# Altium integrated library micro-hitachi.IntLib: 4 symbols
Pins are listed as number, name and electrical type; pins without a type are passive.

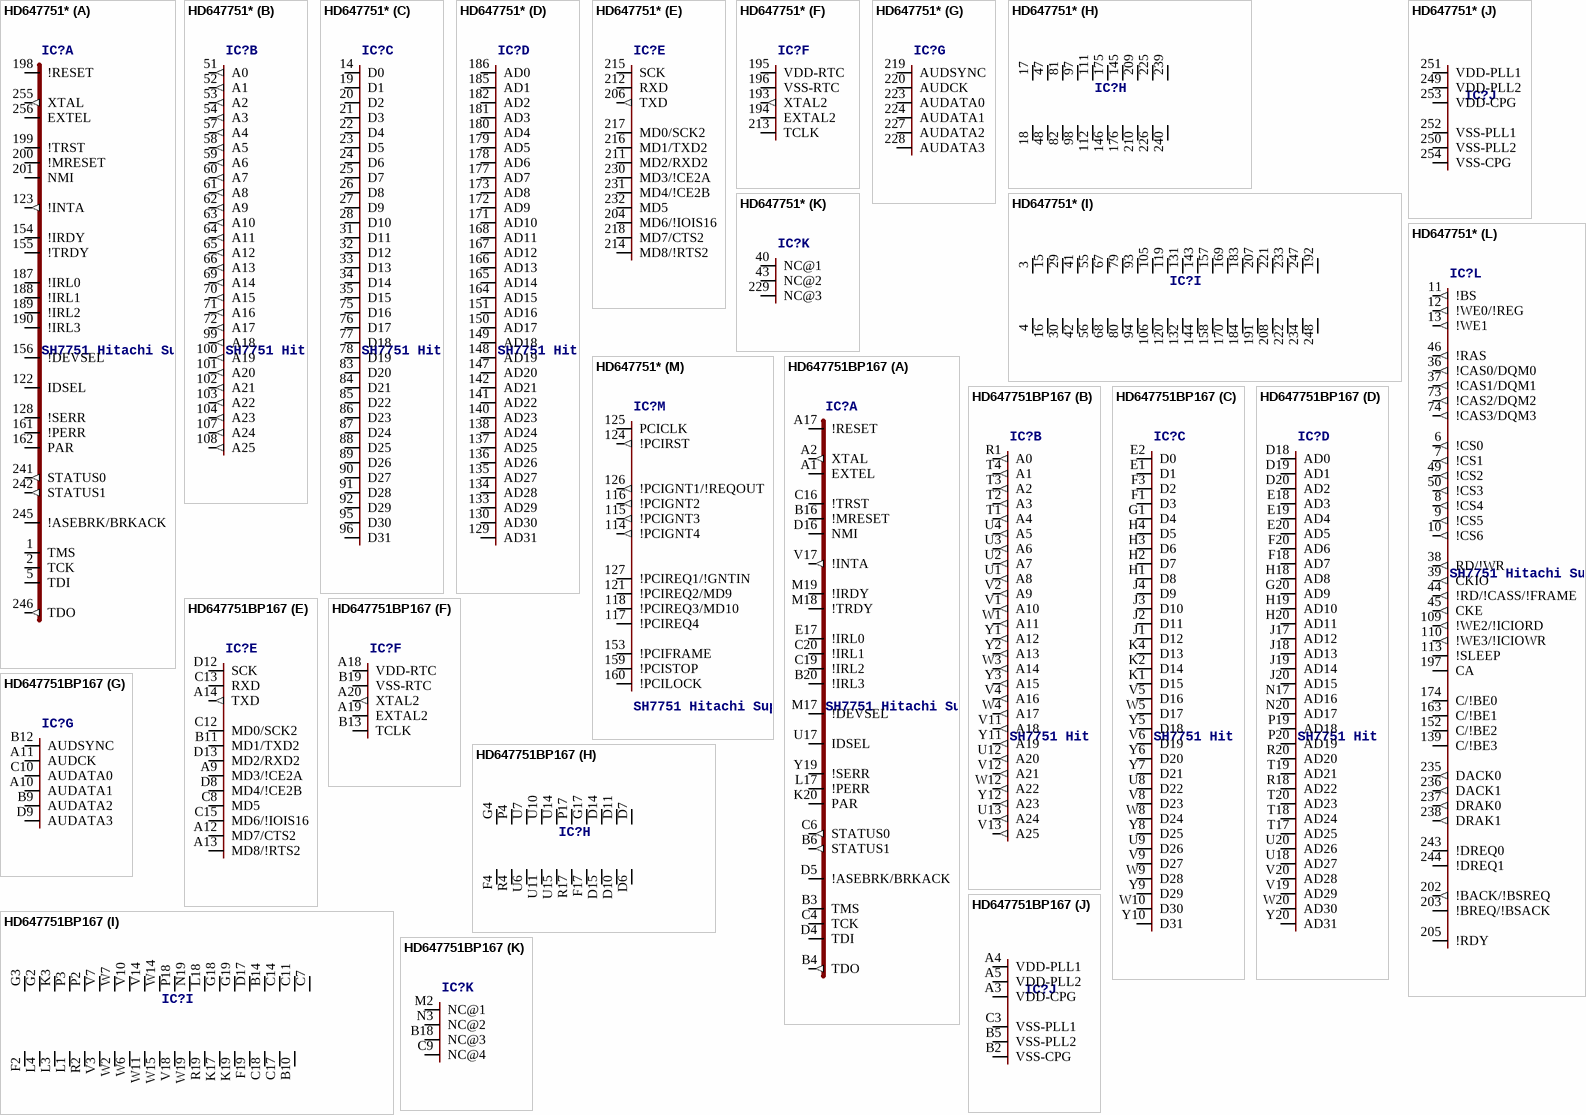
[diagram p0: symbols HD647751* to HD647751BP167]

## HD647751*
designator IC?, comment SH7751 Hitachi SuperH RISC engine   The SH7751 Series microprocessor, featuring a built-in PCI bus controller compatible with PCs and multimedia devices. Source: Hitachi, Ltd. SH7751_R_V3.0.pdf
OC_FARNELL: unknown; OC_NEWARK: unknown
footprint QFP256-28X28
part A pins: 1 TMS, 2 TCK, 5 TDI, 122 IDSEL, 123 !INTA (out), 128 !SERR, 154 !IRDY, 155 !TRDY, 156 !DEVSEL, 161 !PERR, 162 PAR, 187 !IRL0, 188 !IRL1, 189 !IRL2, 190 !IRL3, 198 !RESET, 199 !TRST, 200 !MRESET, 201 NMI, 241 STATUS0 (out), 242 STATUS1 (out), 245 !ASEBRK/BRKACK, 246 TDO (out), 255 XTAL (out), 256 EXTEL
part B pins: 51 A0 (out), 52 A1 (out), 53 A2 (out), 54 A3 (out), 57 A4 (out), 58 A5 (out), 59 A6 (out), 60 A7 (out), 61 A8 (out), 62 A9 (out), 63 A10 (out), 64 A11 (out), 65 A12 (out), 66 A13 (out), 69 A14 (out), 70 A15 (out), 71 A16 (out), 72 A17 (out), 99 A18 (out), 100 A19 (out), 101 A20 (out), 102 A21 (out), 103 A22 (out), 104 A23 (out), 107 A24 (out), 108 A25 (out)
part C pins: 14 D0, 19 D1, 20 D2, 21 D3, 22 D4, 23 D5, 24 D6, 25 D7, 26 D8, 27 D9, 28 D10, 31 D11, 32 D12, 33 D13, 34 D14, 35 D15, 75 D16, 76 D17, 77 D18, 78 D19, 83 D20, 84 D21, 85 D22, 86 D23, 87 D24, 88 D25, 89 D26, 90 D27, 91 D28, 92 D29, 95 D30, 96 D31
part D pins: 129 AD31, 130 AD30, 133 AD29, 134 AD28, 135 AD27, 136 AD26, 137 AD25, 138 AD24, 140 AD23, 141 AD22, 142 AD21, 147 AD20, 148 AD19, 149 AD18, 150 AD17, 151 AD16, 164 AD15, 165 AD14, 166 AD13, 167 AD12, 168 AD11, 171 AD10, 172 AD9, 173 AD8, 177 AD7, 178 AD6, 179 AD5, 180 AD4, 181 AD3, 182 AD2, 185 AD1, 186 AD0
part E pins: 204 MD6/!IOIS16, 206 TXD (out), 211 MD2/RXD2, 212 RXD, 214 MD8/!RTS2, 215 SCK, 216 MD1/TXD2, 217 MD0/SCK2, 218 MD7/CTS2, 230 MD3/!CE2A, 231 MD4/!CE2B, 232 MD5
part F pins: 193 XTAL2 (out), 194 EXTAL2, 195 VDD-RTC (power), 196 VSS-RTC (power), 213 TCLK
part G pins: 219 AUDSYNC, 220 AUDCK, 223 AUDATA0, 224 AUDATA1, 227 AUDATA2, 228 AUDATA3
part H pins: 17 VDD (power), 18 VSS (power), 47 VDD@1 (power), 48 VSS@1 (power), 81 VDD@2 (power), 82 VSS@2 (power), 97 VDD@3 (power), 98 VSS@3 (power), 111 VDD@4 (power), 112 VSS@4 (power), 145 VDD@6 (power), 146 VSS@5 (power), 175 VDD@5 (power), 176 VSS@6 (power), 209 VDD@7 (power), 210 VSS@7 (power), 225 VDD@8 (power), 226 VSS@8 (power), 239 VDD@9 (power), 240 VSS@9 (power)
part I pins: 3 VDDQ (power), 4 VSSQ (power), 15 VDDQ@1 (power), 16 VSSQ@1 (power), 29 VDDQ@2 (power), 30 VSSQ@2 (power), 41 VDDQ@3 (power), 42 VSSQ@3 (power), 55 VDDQ@4 (power), 56 VSSQ@4 (power), 67 VDDQ@5 (power), 68 VSSQ@5 (power), 79 VDDQ@6 (power), 80 VSSQ@6 (power), 93 VDDQ@7 (power), 94 VSSQ@7 (power), 105 VDDQ@8 (power), 106 VSSQ@8 (power), 119 VDDQ@9 (power), 120 VSSQ@9 (power), 131 VDDQ@10 (power), 132 VSSQ@10 (power), 143 VDDQ@11 (power), 144 VSSQ@11 (power), 157 VDDQ@12 (power), 158 VSSQ@12 (power), 169 VDDQ@13 (power), 170 VSSQ@13 (power), 183 VDDQ@14 (power), 184 VSSQ@14 (power), 191 VSSQ@15 (power), 192 VDDQ@19 (power), 207 VDDQ@15 (power), 208 VSSQ@16 (power), 221 VDDQ@16 (power), 222 VSSQ@17 (power), 233 VDDQ@17 (power), 234 VSSQ@18 (power), 247 VDDQ@18 (power), 248 VSSQ@19 (power)
part J pins: 249 VDD-PLL2 (power), 250 VSS-PLL2 (power), 251 VDD-PLL1 (power), 252 VSS-PLL1 (power), 253 VDD-CPG (power), 254 VSS-CPG (power)
part K pins: 40 NC@1, 43 NC@2, 229 NC@3
part L pins: 6 !CS0 (out), 7 !CS1 (out), 8 !CS4 (out), 9 !CS5 (out), 10 !CS6 (out), 11 !BS (out), 12 !WE0/!REG (out), 13 !WE1 (out), 36 !CAS0/DQM0 (out), 37 !CAS1/DQM1 (out), 38 RD/!WR (out), 39 CKIO (out), 44 !RD/!CASS/!FRAME (out), 45 CKE (out), 46 !RAS (out), 49 !CS2 (out), 50 !CS3 (out), 73 !CAS2/DQM2 (out), 74 !CAS3/DQM3 (out), 109 !WE2/!ICIORD (out), 110 !WE3/!ICIOWR (out), 113 !SLEEP, 139 C/!BE3, 152 C/!BE2, 163 C/!BE1, 174 C/!BE0, 197 CA, 202 !BACK/!BSREQ (out), 203 !BREQ/!BSACK, 205 !RDY, 235 DACK0 (out), 236 DACK1 (out), 237 DRAK0 (out), 238 DRAK1 (out), 243 !DREQ0, 244 !DREQ1
part M pins: 114 !PCIGNT4 (out), 115 !PCIGNT3 (out), 116 !PCIGNT2 (out), 117 !PCIREQ4, 118 !PCIREQ3/MD10, 121 !PCIREQ2/MD9, 124 !PCIRST (out), 125 PCICLK, 126 !PCIGNT1/!REQOUT (out), 127 !PCIREQ1/!GNTIN, 153 !PCIFRAME, 159 !PCISTOP, 160 !PCILOCK

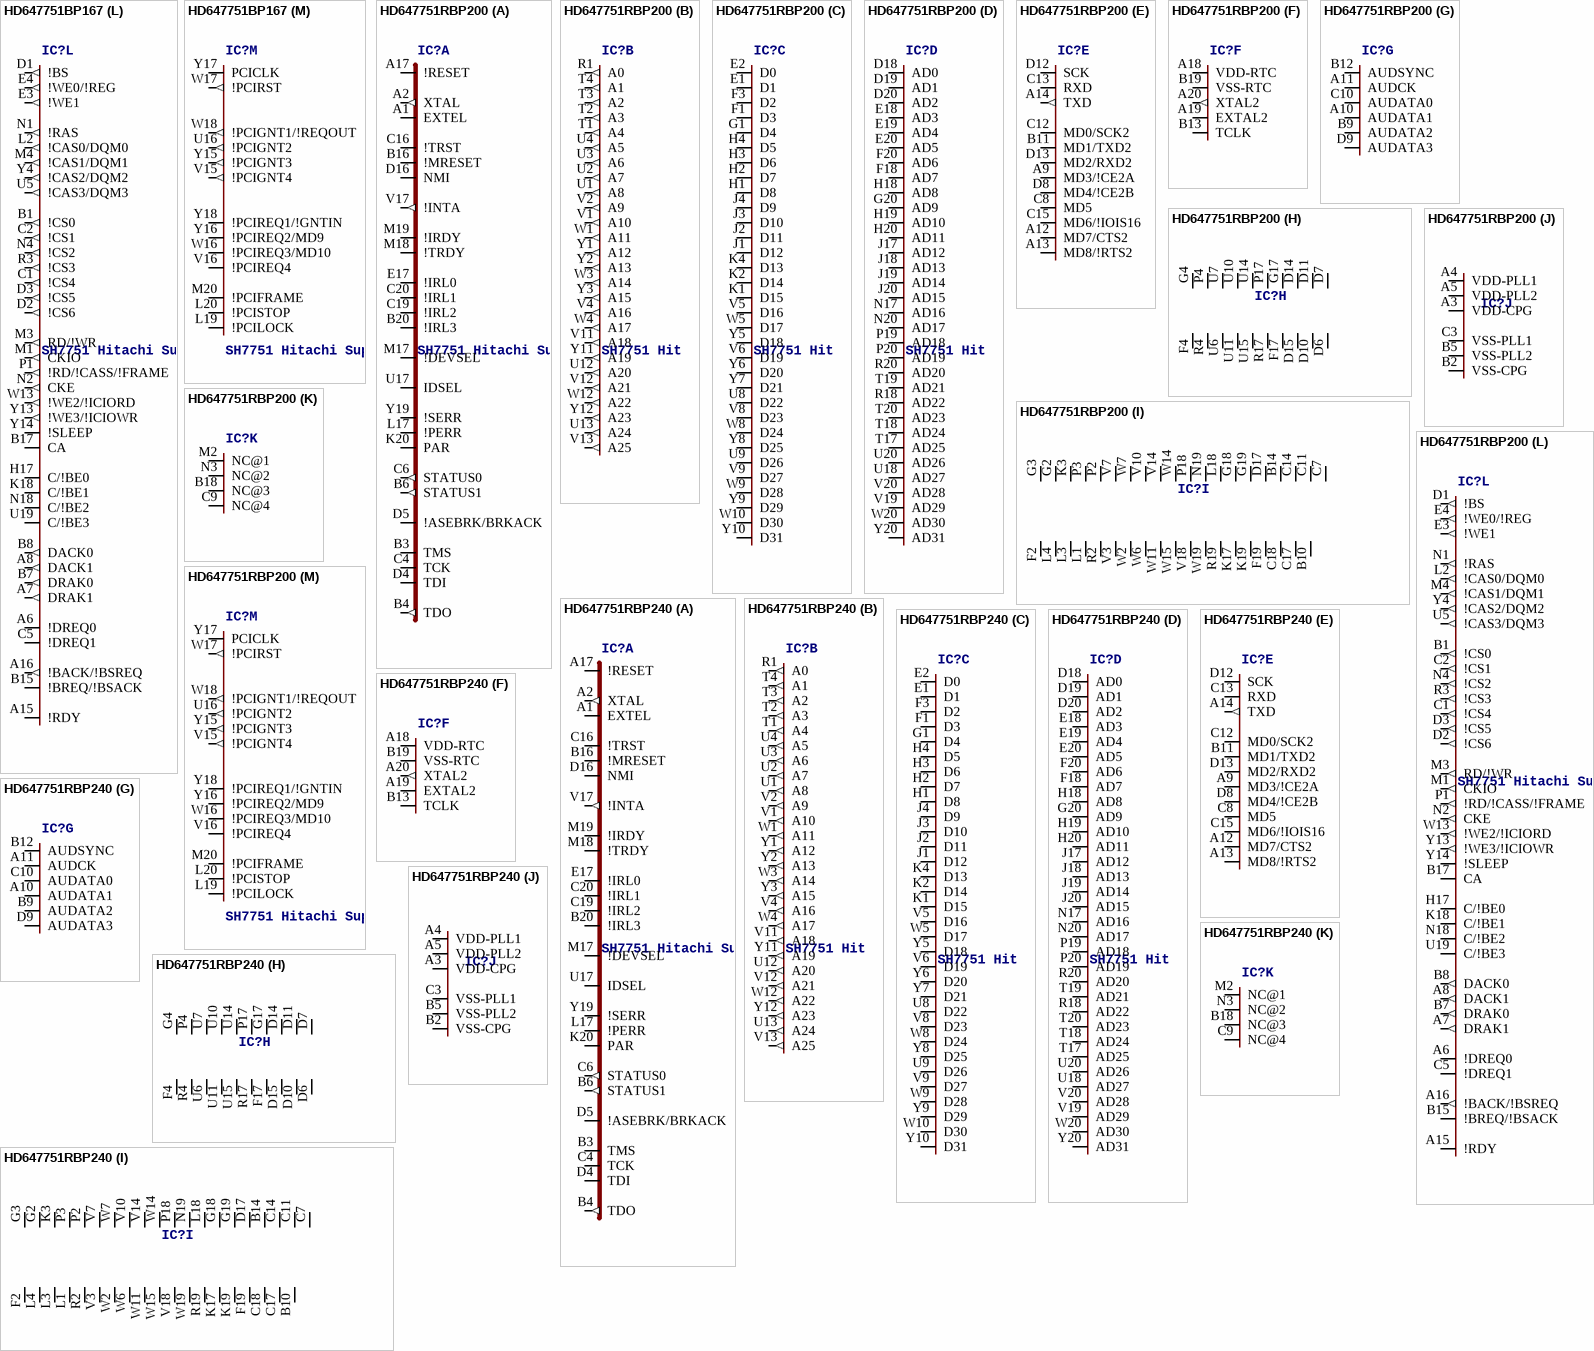
[diagram p1: symbols HD647751BP167 to HD647751RBP240]

## HD647751BP167
designator IC?, comment SH7751 Hitachi SuperH RISC engine   The SH7751 Series microprocessor, featuring a built-in PCI bus controller compatible with PCs and multimedia devices. Source: Hitachi, Ltd. SH7751_R_V3.0.pdf
OC_FARNELL: unknown; OC_NEWARK: unknown
footprint BGA256
part A pins: A1 EXTEL, A2 XTAL (out), A17 !RESET, B3 TMS, B4 TDO (out), B6 STATUS1 (out), B16 !MRESET, B20 !IRL3, C4 TCK, C6 STATUS0 (out), C16 !TRST, C19 !IRL2, C20 !IRL1, D4 TDI, D5 !ASEBRK/BRKACK, D16 NMI, E17 !IRL0, K20 PAR, L17 !PERR, M17 !DEVSEL, M18 !TRDY, M19 !IRDY, U17 IDSEL, V17 !INTA (out), Y19 !SERR
part B pins: R1 A0 (out), T1 A4 (out), T2 A3 (out), T3 A2 (out), T4 A1 (out), U1 A8 (out), U2 A7 (out), U3 A6 (out), U4 A5 (out), U12 A20 (out), U13 A24 (out), V1 A10 (out), V2 A9 (out), V4 A16 (out), V11 A18 (out), V12 A21 (out), V13 A25 (out), W1 A11 (out), W3 A14 (out), W4 A17 (out), W12 A22 (out), Y1 A12 (out), Y2 A13 (out), Y3 A15 (out), Y11 A19 (out), Y12 A23 (out)
part C pins: E1 D1, E2 D0, F1 D3, F3 D2, G1 D4, H1 D8, H2 D7, H3 D6, H4 D5, J1 D12, J2 D11, J3 D10, J4 D9, K1 D15, K2 D14, K4 D13, U8 D22, U9 D26, V5 D16, V6 D19, V8 D23, V9 D27, W5 D17, W8 D24, W9 D28, W10 D30, Y5 D18, Y6 D20, Y7 D21, Y8 D25, Y9 D29, Y10 D31
part D pins: D18 AD0, D19 AD1, D20 AD2, E18 AD3, E19 AD4, E20 AD5, F18 AD7, F20 AD6, G20 AD9, H18 AD8, H19 AD10, H20 AD11, J17 AD12, J18 AD13, J19 AD14, J20 AD15, N17 AD16, N20 AD17, P19 AD18, P20 AD19, R18 AD22, R20 AD20, T17 AD25, T18 AD24, T19 AD21, T20 AD23, U18 AD27, U20 AD26, V19 AD29, V20 AD28, W20 AD30, Y20 AD31
part E pins: A9 MD3/!CE2A, A12 MD7/CTS2, A13 MD8/!RTS2, A14 TXD (out), B11 MD1/TXD2, C8 MD5, C12 MD0/SCK2, C13 RXD, C15 MD6/!IOIS16, D8 MD4/!CE2B, D12 SCK, D13 MD2/RXD2
part F pins: A18 VDD-RTC (power), A19 EXTAL2, A20 XTAL2 (out), B13 TCLK, B19 VSS-RTC (power)
part G pins: A10 AUDATA1, A11 AUDCK, B9 AUDATA2, B12 AUDSYNC, C10 AUDATA0, D9 AUDATA3
part H pins: D6 VSS@9 (power), D7 VDD@9 (power), D10 VSS@8 (power), D11 VDD@8 (power), D14 VDD@7 (power), D15 VSS@7 (power), F4 VSS (power), F17 VSS@6 (power), G4 VDD (power), G17 VDD@6 (power), P4 VDD@1 (power), P17 VDD@5 (power), R4 VSS@1 (power), R17 VSS@5 (power), U6 VSS@2 (power), U7 VDD@2 (power), U10 VDD@3 (power), U11 VSS@3 (power), U14 VDD@4 (power), U15 VSS@4 (power)
part I pins: B10 VSSQ@18 (power), B14 VDDQ@16 (power), C7 VDDQ@19 (power), C11 VDDQ@18 (power), C14 VDDQ@17 (power), C17 VSSQ@17 (power), C18 VSSQ@16 (power), D17 VDDQ@15 (power), F2 VSSQ (power), F19 VSSQ@15 (power), G2 VDDQ@1 (power), G3 VDDQ (power), G18 VDDQ@13 (power), G19 VDDQ@14 (power), K3 VDDQ@2 (power), K17 VSSQ@13 (power), K19 VSSQ@14 (power), L1 VSSQ@3 (power), L3 VSSQ@2 (power), L4 VSSQ@1 (power), L18 VDDQ@12 (power), N19 VDDQ@11 (power), P2 VDDQ@4 (power), P3 VDDQ@3 (power), P18 VDDQ@10 (power), R2 VSSQ@4 (power), R19 VSSQ@12 (power), V3 VSSQ@5 (power), V7 VDDQ@5 (power), V10 VDDQ@7 (power), V14 VDDQ@8 (power), V18 VSSQ@10 (power), W2 VSSQ@6 (power), W6 VSSQ@7 (power), W7 VDDQ@6 (power), W11 VSSQ@8 (power), W14 VDDQ@9 (power), W15 VSSQ@9 (power), W19 VSSQ@11 (power)
part J pins: A3 VDD-CPG (power), A4 VDD-PLL1 (power), A5 VDD-PLL2 (power), B2 VSS-CPG (power), B5 VSS-PLL2 (power), C3 VSS-PLL1 (power)
part K pins: B18 NC@3, C9 NC@4, M2 NC@1, N3 NC@2
part L pins: A6 !DREQ0, A7 DRAK1 (out), A8 DACK1 (out), A15 !RDY, A16 !BACK/!BSREQ (out), B1 !CS0 (out), B7 DRAK0 (out), B8 DACK0 (out), B15 !BREQ/!BSACK, B17 CA, C1 !CS4 (out), C2 !CS1 (out), C5 !DREQ1, D1 !BS (out), D2 !CS6 (out), D3 !CS5 (out), E3 !WE1 (out), E4 !WE0/!REG (out), H17 C/!BE0, K18 C/!BE1, L2 !CAS0/DQM0 (out), M1 CKIO (out), M3 RD/!WR (out), M4 !CAS1/DQM1 (out), N1 !RAS (out), N2 CKE (out), N4 !CS2 (out), N18 C/!BE2, P1 !RD/!CASS/!FRAME (out), R3 !CS3 (out), U5 !CAS3/DQM3 (out), U19 C/!BE3, W13 !WE2/!ICIORD (out), Y4 !CAS2/DQM2 (out), Y13 !WE3/!ICIOWR (out), Y14 !SLEEP
part M pins: L19 !PCILOCK, L20 !PCISTOP, M20 !PCIFRAME, U16 !PCIGNT2 (out), V15 !PCIGNT4 (out), V16 !PCIREQ4, W16 !PCIREQ3/MD10, W17 !PCIRST (out), W18 !PCIGNT1/!REQOUT (out), Y15 !PCIGNT3 (out), Y16 !PCIREQ2/MD9, Y17 PCICLK, Y18 !PCIREQ1/!GNTIN

## HD647751RBP200
designator IC?, comment SH7751 Hitachi SuperH RISC engine   The SH7751 Series microprocessor, featuring a built-in PCI bus controller compatible with PCs and multimedia devices. Source: Hitachi, Ltd. SH7751_R_V3.0.pdf
OC_FARNELL: unknown; OC_NEWARK: unknown
footprint BGA256
part A pins: A1 EXTEL, A2 XTAL (out), A17 !RESET, B3 TMS, B4 TDO (out), B6 STATUS1 (out), B16 !MRESET, B20 !IRL3, C4 TCK, C6 STATUS0 (out), C16 !TRST, C19 !IRL2, C20 !IRL1, D4 TDI, D5 !ASEBRK/BRKACK, D16 NMI, E17 !IRL0, K20 PAR, L17 !PERR, M17 !DEVSEL, M18 !TRDY, M19 !IRDY, U17 IDSEL, V17 !INTA (out), Y19 !SERR
part B pins: R1 A0 (out), T1 A4 (out), T2 A3 (out), T3 A2 (out), T4 A1 (out), U1 A8 (out), U2 A7 (out), U3 A6 (out), U4 A5 (out), U12 A20 (out), U13 A24 (out), V1 A10 (out), V2 A9 (out), V4 A16 (out), V11 A18 (out), V12 A21 (out), V13 A25 (out), W1 A11 (out), W3 A14 (out), W4 A17 (out), W12 A22 (out), Y1 A12 (out), Y2 A13 (out), Y3 A15 (out), Y11 A19 (out), Y12 A23 (out)
part C pins: E1 D1, E2 D0, F1 D3, F3 D2, G1 D4, H1 D8, H2 D7, H3 D6, H4 D5, J1 D12, J2 D11, J3 D10, J4 D9, K1 D15, K2 D14, K4 D13, U8 D22, U9 D26, V5 D16, V6 D19, V8 D23, V9 D27, W5 D17, W8 D24, W9 D28, W10 D30, Y5 D18, Y6 D20, Y7 D21, Y8 D25, Y9 D29, Y10 D31
part D pins: D18 AD0, D19 AD1, D20 AD2, E18 AD3, E19 AD4, E20 AD5, F18 AD7, F20 AD6, G20 AD9, H18 AD8, H19 AD10, H20 AD11, J17 AD12, J18 AD13, J19 AD14, J20 AD15, N17 AD16, N20 AD17, P19 AD18, P20 AD19, R18 AD22, R20 AD20, T17 AD25, T18 AD24, T19 AD21, T20 AD23, U18 AD27, U20 AD26, V19 AD29, V20 AD28, W20 AD30, Y20 AD31
part E pins: A9 MD3/!CE2A, A12 MD7/CTS2, A13 MD8/!RTS2, A14 TXD (out), B11 MD1/TXD2, C8 MD5, C12 MD0/SCK2, C13 RXD, C15 MD6/!IOIS16, D8 MD4/!CE2B, D12 SCK, D13 MD2/RXD2
part F pins: A18 VDD-RTC (power), A19 EXTAL2, A20 XTAL2 (out), B13 TCLK, B19 VSS-RTC (power)
part G pins: A10 AUDATA1, A11 AUDCK, B9 AUDATA2, B12 AUDSYNC, C10 AUDATA0, D9 AUDATA3
part H pins: D6 VSS@9 (power), D7 VDD@9 (power), D10 VSS@8 (power), D11 VDD@8 (power), D14 VDD@7 (power), D15 VSS@7 (power), F4 VSS (power), F17 VSS@6 (power), G4 VDD (power), G17 VDD@6 (power), P4 VDD@1 (power), P17 VDD@5 (power), R4 VSS@1 (power), R17 VSS@5 (power), U6 VSS@2 (power), U7 VDD@2 (power), U10 VDD@3 (power), U11 VSS@3 (power), U14 VDD@4 (power), U15 VSS@4 (power)
part I pins: B10 VSSQ@18 (power), B14 VDDQ@16 (power), C7 VDDQ@19 (power), C11 VDDQ@18 (power), C14 VDDQ@17 (power), C17 VSSQ@17 (power), C18 VSSQ@16 (power), D17 VDDQ@15 (power), F2 VSSQ (power), F19 VSSQ@15 (power), G2 VDDQ@1 (power), G3 VDDQ (power), G18 VDDQ@13 (power), G19 VDDQ@14 (power), K3 VDDQ@2 (power), K17 VSSQ@13 (power), K19 VSSQ@14 (power), L1 VSSQ@3 (power), L3 VSSQ@2 (power), L4 VSSQ@1 (power), L18 VDDQ@12 (power), N19 VDDQ@11 (power), P2 VDDQ@4 (power), P3 VDDQ@3 (power), P18 VDDQ@10 (power), R2 VSSQ@4 (power), R19 VSSQ@12 (power), V3 VSSQ@5 (power), V7 VDDQ@5 (power), V10 VDDQ@7 (power), V14 VDDQ@8 (power), V18 VSSQ@10 (power), W2 VSSQ@6 (power), W6 VSSQ@7 (power), W7 VDDQ@6 (power), W11 VSSQ@8 (power), W14 VDDQ@9 (power), W15 VSSQ@9 (power), W19 VSSQ@11 (power)
part J pins: A3 VDD-CPG (power), A4 VDD-PLL1 (power), A5 VDD-PLL2 (power), B2 VSS-CPG (power), B5 VSS-PLL2 (power), C3 VSS-PLL1 (power)
part K pins: B18 NC@3, C9 NC@4, M2 NC@1, N3 NC@2
part L pins: A6 !DREQ0, A7 DRAK1 (out), A8 DACK1 (out), A15 !RDY, A16 !BACK/!BSREQ (out), B1 !CS0 (out), B7 DRAK0 (out), B8 DACK0 (out), B15 !BREQ/!BSACK, B17 CA, C1 !CS4 (out), C2 !CS1 (out), C5 !DREQ1, D1 !BS (out), D2 !CS6 (out), D3 !CS5 (out), E3 !WE1 (out), E4 !WE0/!REG (out), H17 C/!BE0, K18 C/!BE1, L2 !CAS0/DQM0 (out), M1 CKIO (out), M3 RD/!WR (out), M4 !CAS1/DQM1 (out), N1 !RAS (out), N2 CKE (out), N4 !CS2 (out), N18 C/!BE2, P1 !RD/!CASS/!FRAME (out), R3 !CS3 (out), U5 !CAS3/DQM3 (out), U19 C/!BE3, W13 !WE2/!ICIORD (out), Y4 !CAS2/DQM2 (out), Y13 !WE3/!ICIOWR (out), Y14 !SLEEP
part M pins: L19 !PCILOCK, L20 !PCISTOP, M20 !PCIFRAME, U16 !PCIGNT2 (out), V15 !PCIGNT4 (out), V16 !PCIREQ4, W16 !PCIREQ3/MD10, W17 !PCIRST (out), W18 !PCIGNT1/!REQOUT (out), Y15 !PCIGNT3 (out), Y16 !PCIREQ2/MD9, Y17 PCICLK, Y18 !PCIREQ1/!GNTIN

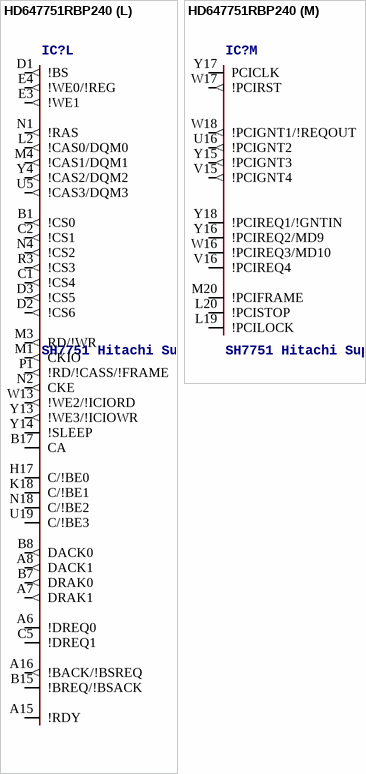
[diagram p2: symbol HD647751RBP240]

## HD647751RBP240
designator IC?, comment SH7751 Hitachi SuperH RISC engine   The SH7751 Series microprocessor, featuring a built-in PCI bus controller compatible with PCs and multimedia devices. Source: Hitachi, Ltd. SH7751_R_V3.0.pdf
OC_FARNELL: unknown; OC_NEWARK: unknown
footprint BGA256
part A pins: A1 EXTEL, A2 XTAL (out), A17 !RESET, B3 TMS, B4 TDO (out), B6 STATUS1 (out), B16 !MRESET, B20 !IRL3, C4 TCK, C6 STATUS0 (out), C16 !TRST, C19 !IRL2, C20 !IRL1, D4 TDI, D5 !ASEBRK/BRKACK, D16 NMI, E17 !IRL0, K20 PAR, L17 !PERR, M17 !DEVSEL, M18 !TRDY, M19 !IRDY, U17 IDSEL, V17 !INTA (out), Y19 !SERR
part B pins: R1 A0 (out), T1 A4 (out), T2 A3 (out), T3 A2 (out), T4 A1 (out), U1 A8 (out), U2 A7 (out), U3 A6 (out), U4 A5 (out), U12 A20 (out), U13 A24 (out), V1 A10 (out), V2 A9 (out), V4 A16 (out), V11 A18 (out), V12 A21 (out), V13 A25 (out), W1 A11 (out), W3 A14 (out), W4 A17 (out), W12 A22 (out), Y1 A12 (out), Y2 A13 (out), Y3 A15 (out), Y11 A19 (out), Y12 A23 (out)
part C pins: E1 D1, E2 D0, F1 D3, F3 D2, G1 D4, H1 D8, H2 D7, H3 D6, H4 D5, J1 D12, J2 D11, J3 D10, J4 D9, K1 D15, K2 D14, K4 D13, U8 D22, U9 D26, V5 D16, V6 D19, V8 D23, V9 D27, W5 D17, W8 D24, W9 D28, W10 D30, Y5 D18, Y6 D20, Y7 D21, Y8 D25, Y9 D29, Y10 D31
part D pins: D18 AD0, D19 AD1, D20 AD2, E18 AD3, E19 AD4, E20 AD5, F18 AD7, F20 AD6, G20 AD9, H18 AD8, H19 AD10, H20 AD11, J17 AD12, J18 AD13, J19 AD14, J20 AD15, N17 AD16, N20 AD17, P19 AD18, P20 AD19, R18 AD22, R20 AD20, T17 AD25, T18 AD24, T19 AD21, T20 AD23, U18 AD27, U20 AD26, V19 AD29, V20 AD28, W20 AD30, Y20 AD31
part E pins: A9 MD3/!CE2A, A12 MD7/CTS2, A13 MD8/!RTS2, A14 TXD (out), B11 MD1/TXD2, C8 MD5, C12 MD0/SCK2, C13 RXD, C15 MD6/!IOIS16, D8 MD4/!CE2B, D12 SCK, D13 MD2/RXD2
part F pins: A18 VDD-RTC (power), A19 EXTAL2, A20 XTAL2 (out), B13 TCLK, B19 VSS-RTC (power)
part G pins: A10 AUDATA1, A11 AUDCK, B9 AUDATA2, B12 AUDSYNC, C10 AUDATA0, D9 AUDATA3
part H pins: D6 VSS@9 (power), D7 VDD@9 (power), D10 VSS@8 (power), D11 VDD@8 (power), D14 VDD@7 (power), D15 VSS@7 (power), F4 VSS (power), F17 VSS@6 (power), G4 VDD (power), G17 VDD@6 (power), P4 VDD@1 (power), P17 VDD@5 (power), R4 VSS@1 (power), R17 VSS@5 (power), U6 VSS@2 (power), U7 VDD@2 (power), U10 VDD@3 (power), U11 VSS@3 (power), U14 VDD@4 (power), U15 VSS@4 (power)
part I pins: B10 VSSQ@18 (power), B14 VDDQ@16 (power), C7 VDDQ@19 (power), C11 VDDQ@18 (power), C14 VDDQ@17 (power), C17 VSSQ@17 (power), C18 VSSQ@16 (power), D17 VDDQ@15 (power), F2 VSSQ (power), F19 VSSQ@15 (power), G2 VDDQ@1 (power), G3 VDDQ (power), G18 VDDQ@13 (power), G19 VDDQ@14 (power), K3 VDDQ@2 (power), K17 VSSQ@13 (power), K19 VSSQ@14 (power), L1 VSSQ@3 (power), L3 VSSQ@2 (power), L4 VSSQ@1 (power), L18 VDDQ@12 (power), N19 VDDQ@11 (power), P2 VDDQ@4 (power), P3 VDDQ@3 (power), P18 VDDQ@10 (power), R2 VSSQ@4 (power), R19 VSSQ@12 (power), V3 VSSQ@5 (power), V7 VDDQ@5 (power), V10 VDDQ@7 (power), V14 VDDQ@8 (power), V18 VSSQ@10 (power), W2 VSSQ@6 (power), W6 VSSQ@7 (power), W7 VDDQ@6 (power), W11 VSSQ@8 (power), W14 VDDQ@9 (power), W15 VSSQ@9 (power), W19 VSSQ@11 (power)
part J pins: A3 VDD-CPG (power), A4 VDD-PLL1 (power), A5 VDD-PLL2 (power), B2 VSS-CPG (power), B5 VSS-PLL2 (power), C3 VSS-PLL1 (power)
part K pins: B18 NC@3, C9 NC@4, M2 NC@1, N3 NC@2
part L pins: A6 !DREQ0, A7 DRAK1 (out), A8 DACK1 (out), A15 !RDY, A16 !BACK/!BSREQ (out), B1 !CS0 (out), B7 DRAK0 (out), B8 DACK0 (out), B15 !BREQ/!BSACK, B17 CA, C1 !CS4 (out), C2 !CS1 (out), C5 !DREQ1, D1 !BS (out), D2 !CS6 (out), D3 !CS5 (out), E3 !WE1 (out), E4 !WE0/!REG (out), H17 C/!BE0, K18 C/!BE1, L2 !CAS0/DQM0 (out), M1 CKIO (out), M3 RD/!WR (out), M4 !CAS1/DQM1 (out), N1 !RAS (out), N2 CKE (out), N4 !CS2 (out), N18 C/!BE2, P1 !RD/!CASS/!FRAME (out), R3 !CS3 (out), U5 !CAS3/DQM3 (out), U19 C/!BE3, W13 !WE2/!ICIORD (out), Y4 !CAS2/DQM2 (out), Y13 !WE3/!ICIOWR (out), Y14 !SLEEP
part M pins: L19 !PCILOCK, L20 !PCISTOP, M20 !PCIFRAME, U16 !PCIGNT2 (out), V15 !PCIGNT4 (out), V16 !PCIREQ4, W16 !PCIREQ3/MD10, W17 !PCIRST (out), W18 !PCIGNT1/!REQOUT (out), Y15 !PCIGNT3 (out), Y16 !PCIREQ2/MD9, Y17 PCICLK, Y18 !PCIREQ1/!GNTIN